# EAGLE library part ADS1291_PBS_32 (library Texas Instruments)
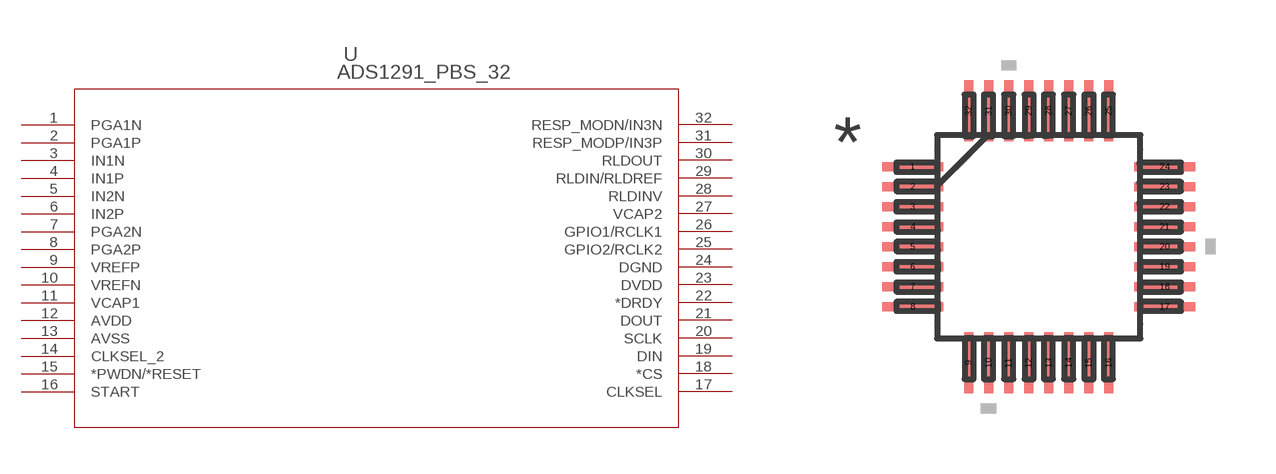
[diagram p4: symbol with the pads of PBS32; footprint PBS32]

Designator prefix U

## ADS1291_PBS_32 (DATASHEETURL: http://www.ti.com/lit/gpn/ADS1291; DESCRIPTION: Complete Low Power Integrated Analog Front End for ECG Applications; FAMILY_NAME: ECG / EEG Analog Front End; GENERIC_PART_NUMBER: ADS1291; INDUSTRY_STD_PKG_TYPE: TQFP; MANUFACTURER: Texas Instruments; MANUFACTURER_PART_NUMBER: ads1291_pbs_32; PACKAGE_DESIGNATOR: PBS; PIN_COUNT: 32; VENDOR: Texas Instruments)  [PBS32]
1  PGA1N  out
2  PGA1P  out
3  IN1N  in
4  IN1P  in
5  IN2N  in
6  IN2P  in
7  PGA2N  out
8  PGA2P  out
9  VREFP
10  VREFN  in
11  VCAP1  pas
12  AVDD  pwr
13  AVSS  pwr
14  CLKSEL_2  in
15  *PWDN/*RESET  in
16  START  in
17  CLKSEL  in
18  *CS  in
19  DIN  in
20  SCLK  in
21  DOUT  out
22  *DRDY  out
23  DVDD  pwr
24  DGND  pwr
25  GPIO2/RCLK2
26  GPIO1/RCLK1
27  VCAP2  pas
28  RLDINV  in
29  RLDIN/RLDREF  in
30  RLDOUT  out
31  RESP_MODP/IN3P
32  RESP_MODN/IN3N

## Footprint PBS32 (pad centres in mm)
smd 1.524 x 0.229: 1 -3.15,1.75; 2 -3.15,1.25; 3 -3.15,0.75; 4 -3.15,0.25; 5 -3.15,-0.25; 6 -3.15,-0.75; 7 -3.15,-1.25; 8 -3.15,-1.75; 17 3.15,-1.75; 18 3.15,-1.25; 19 3.15,-0.75; 20 3.15,-0.25; 21 3.15,0.25; 22 3.15,0.75; 23 3.15,1.25; 24 3.15,1.75
smd 0.229 x 1.524: 9 -1.75,-3.15; 10 -1.25,-3.15; 11 -0.75,-3.15; 12 -0.25,-3.15; 13 0.25,-3.15; 14 0.75,-3.15; 15 1.25,-3.15; 16 1.75,-3.15; 25 1.75,3.15; 26 1.25,3.15; 27 0.75,3.15; 28 0.25,3.15; 29 -0.25,3.15; 30 -0.75,3.15; 31 -1.25,3.15; 32 -1.75,3.15